# EAGLE library part KSZ8863MLL/FLL/RLL (library Misaka-IC)
Integrated 3-Port 10/100 Ethernet switch with PHY's Supply voltage: 1.67...1.94V(VDDA1.8), 2.5...3.465V(VDDA3.3), 1.71...3.465V(VDDIO) Interfaces: MLL - Two 10/100BASE-T/TX and one MII RLL - Two 10/100BASE-T/TX and one RMII FLL - One 100BASE-FX, one 10/100BASE-T/TX and one MII
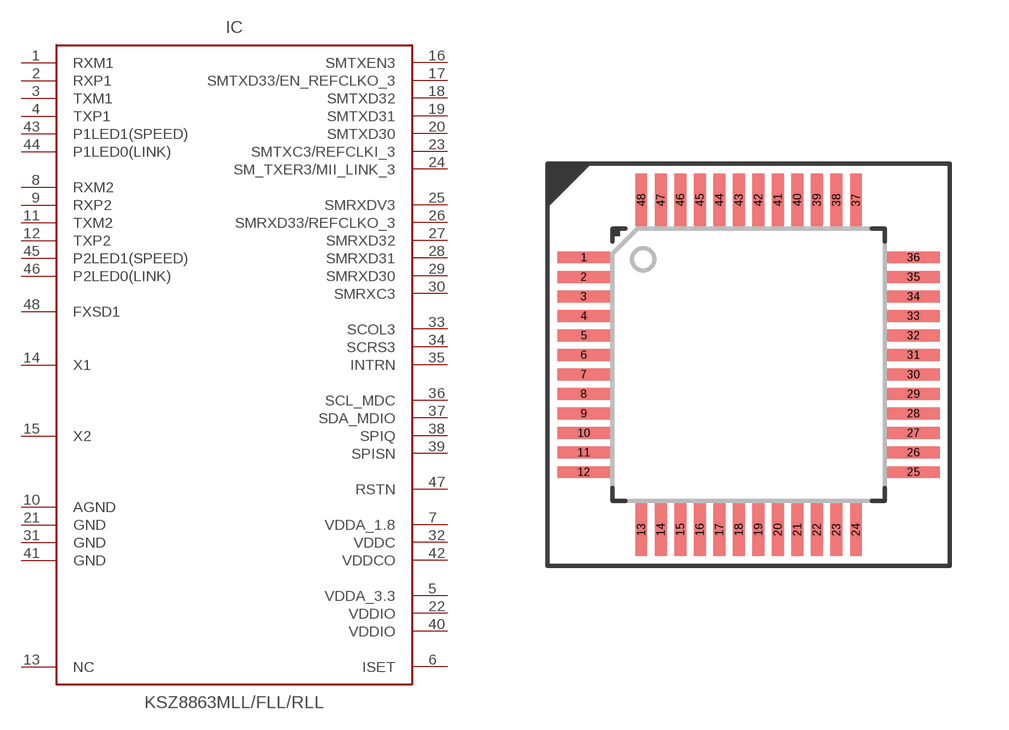
[diagram p0: symbol with the pads of LQFP48; footprint LQFP48]

Designator prefix IC

## KSZ8863MLL/FLL/RLL  [LQFP48]
1  RXM1
2  RXP1
3  TXM1
4  TXP1
5  VDDA_3.3  pwr
6  ISET
7  VDDA_1.8  pwr
8  RXM2
9  RXP2
10  AGND  pwr
11  TXM2
12  TXP2
13  NC  nc
14  X1
15  X2
16  SMTXEN3
17  SMTXD33/EN_REFCLKO_3
18  SMTXD32
19  SMTXD31
20  SMTXD30
21  GND  pwr
22  VDDIO  pwr
23  SMTXC3/REFCLKI_3
24  SM_TXER3/MII_LINK_3
25  SMRXDV3
26  SMRXD33/REFCLKO_3
27  SMRXD32
28  SMRXD31
29  SMRXD30
30  SMRXC3
31  GND  pwr
32  VDDC  pwr
33  SCOL3
34  SCRS3
35  INTRN
36  SCL_MDC
37  SDA_MDIO
38  SPIQ
39  SPISN
40  VDDIO  pwr
41  GND
42  VDDCO  pwr
43  P1LED1(SPEED)
44  P1LED0(LINK)
45  P2LED1(SPEED)
46  P2LED0(LINK)
47  RSTN
48  FXSD1

## Footprint LQFP48 (pad centres in mm)
smd 1.35 x 0.3: 1 -4.225,2.75; 2 -4.225,2.25; 3 -4.225,1.75; 4 -4.225,1.25; 5 -4.225,0.75; 6 -4.225,0.25; 7 -4.225,-0.25; 8 -4.225,-0.75; 9 -4.225,-1.25; 10 -4.225,-1.75; 11 -4.225,-2.25; 12 -4.225,-2.75; 25 4.225,-2.75; 26 4.225,-2.25; 27 4.225,-1.75; 28 4.225,-1.25; 29 4.225,-0.75; 30 4.225,-0.25; 31 4.225,0.25; 32 4.225,0.75; 33 4.225,1.25; 34 4.225,1.75; 35 4.225,2.25; 36 4.225,2.75
smd 0.3 x 1.35: 13 -2.75,-4.225; 14 -2.25,-4.225; 15 -1.75,-4.225; 16 -1.25,-4.225; 17 -0.75,-4.225; 18 -0.25,-4.225; 19 0.25,-4.225; 20 0.75,-4.225; 21 1.25,-4.225; 22 1.75,-4.225; 23 2.25,-4.225; 24 2.75,-4.225; 37 2.75,4.225; 38 2.25,4.225; 39 1.75,4.225; 40 1.25,4.225; 41 0.75,4.225; 42 0.25,4.225; 43 -0.25,4.225; 44 -0.75,4.225; 45 -1.25,4.225; 46 -1.75,4.225; 47 -2.25,4.225; 48 -2.75,4.225